# Altium schematic symbol library Project.SchLib: 38 symbols
Pins are listed as number, name and electrical type; pins without a type are passive.

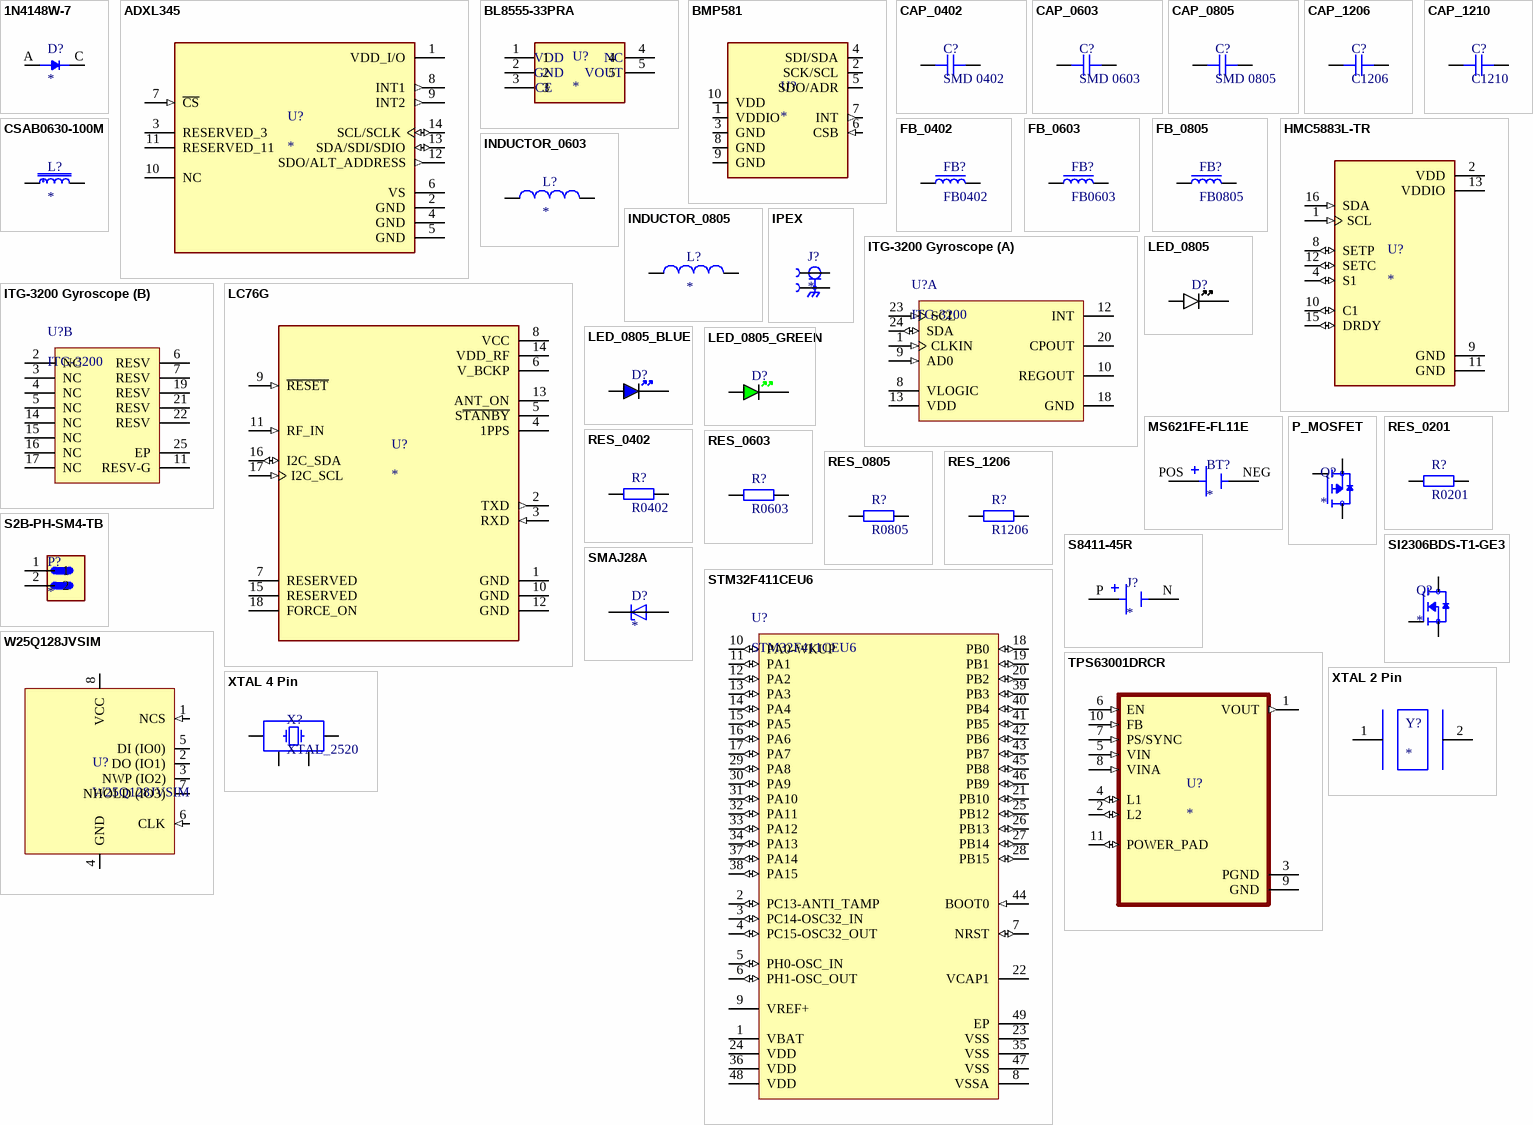
[diagram p0: symbols 1N4148W-7 to XTAL 4 Pin]

## 1N4148W-7
designator D?
Diode Standard 100 V 300mA (DC) Surface Mount SOD-123; MP: 1N4148W-7; MF: Diodes Inc.; SnapEDA_Link: https://www.snapeda.com/parts/1N4148W-7/Diodes+Inc./view-part/?ref=snap; Package: SOD-123 Fairchild Semiconductor; Check_prices: https://www.snapeda.com/parts/1N4148W-7/Diodes+Inc./view-part/?ref=eda; Purchase-URL: https://pricing.snapeda.com/search/part/1N4148W-7/?ref=eda; Price: None; Value: *; Availability: In Stock
footprint SOD3715X135N
pins: A, C K

## ADXL345
designator U?
Accelerometer X, Y, Z Axis ±2g, 4g, 8g, 16g 0.05Hz ~ 1.6kHz 14-LGA (3x5); MF: Analog Devices, Inc.; MP: ADXL345; SnapEDA_Link: https://www.snapeda.com/parts/ADXL345/Analog+Devices/view-part/?ref=snap; Package: LGA -14 Analog Devices; Value: *; Check_prices: https://www.snapeda.com/parts/ADXL345/Analog+Devices/view-part/?ref=eda
footprint PQFN80P500X300X100-14N
pins: 1 VDD_I/O (power), 2 GND (power), 3 RESERVED_3, 4 GND (power), 5 GND (power), 6 VS (power), 7 ~{CS} (in), 8 INT1 (out), 9 INT2 (out), 10 NC, 11 RESERVED_11, 12 SDO/ALT_ADDRESS (out), 13 SDA/SDI/SDIO (io), 14 SCL/SCLK (io)

## BL8555-33PRA
designator U?
footprint SOT-23-5 (SOT23, 5-Leads, Body 2,90x2,80mm, Pitch 0,95mm, IPC Medium Density)
pins: 1, 2, 3, 4, 5
text: VDD; NC; GND; VOUT; CE

## BMP581
designator U?
Very small, low-power and low noise 24-bit absolute barometric pressure sensor. This digital, high-performance sensor is ideally suited for a wide range of altitude tracking applications and offers outstanding design flexibility; MF: Bosch; MP: BMP581; Package: None; Price: None; Value: *; SnapEDA_Link: https://www.snapeda.com/parts/BMP581/Bosch/view-part/?ref=snap; Availability: Unavailable; Check_prices: https://www.snapeda.com/parts/BMP581/Bosch/view-part/?ref=eda
footprint BMP581
pins: 1 VDDIO (power), 2 SCK/SCL (io), 3 GND (power), 4 SDI/SDA (io), 5 SDO/ADR (io), 6 CSB (in), 7 INT (out), 8 GND (power), 9 GND (power), 10 VDD (power)

## CAP_0402
designator C?, comment SMD 0402
Capacitor SMD 0402; Manufacturer: *; Manufacturer Part Number: *; Distributor Link: *; Rating: *; Dielectric: *; LCSC: *
footprint CAP_0402
pins: 1, 2

## CAP_0603
designator C?, comment SMD 0603
Capacitor SMD 0603; Manufacturer: *; Manufacturer Part Number: *; Distributor Link: *; LCSC: *; Rating: *; Dielectric: *
footprint CAP_0603
pins: 1, 2

## CAP_0805
designator C?, comment SMD 0805
Capacitor SMD 0805; Manufacturer: *; Manufacturer Part Number: *; Distributor Link: *; LCSC: *; Rating: *; Dielectric: *
footprint CAP_0805
footprint 0805 NC (Footprint not found)
pins: 1, 2

## CAP_1206
designator C?, comment C1206
Capacitor SMD 1206; Manufacturer: *; Manufacturer Part Number: *; Distributor Link: *; LCSC: *; Rating: *; Dielectric: *
footprint CAP_1206
pins: 1, 2

## CAP_1210
designator C?, comment C1210
Capacitor SMD 1210; Manufacturer: *; Manufacturer Part Number: *; Distributor Link: *; LCSC: *; Rating: *; Dielectric: *
footprint CAP_1210
pins: 1, 2

## CSAB0630-100M
designator L?
SMD Inductor 10uH-20%-5A; MF: Codaca; MP: CSAB0630-100M; SnapEDA_Link: https://www.snapeda.com/parts/CSAB0630-100M/Codaca/view-part/?ref=snap; Package: None; Value: *; Check_prices: https://www.snapeda.com/parts/CSAB0630-100M/Codaca/view-part/?ref=eda
footprint INDC6060X300
pins: 1, 2

## FB_0402
designator FB?, comment FB0402
Ferrite Bead SMD 0402; Manufacturer: *; Manufacturer Part Number: *; Distributor Link: *; LCSC: *
footprint FB_0402
pins: 1, 2

## FB_0603
designator FB?, comment FB0603
Ferrite Bead SMD 0603; Manufacturer: *; Manufacturer Part Number: *; Distributor Link: *; LCSC: *
footprint FB_0603 (Ferrite Bead 0603)
pins: 1, 2

## FB_0805
designator FB?, comment FB0805
Ferrite Bead SMD 0805; Manufacturer: *; Manufacturer Part Number: *; Distributor Link: *; LCSC: *
footprint FB_0805
pins: 1, 2

## HMC5883L-TR
designator U?
Board Mount Hall Effect / Magnetic Sensors Sensors, Transducers Magnetic - Hall Effect, Digital Switch, Linear, Compass (ICs) - IC COMPASS 3 AXIS I2C 16LCC SMD; MF: STMicroelectronics; MP: HMC5883LTR; SnapEDA_Link: https://www.snapeda.com/parts/HMC5883LTR/STMicroelectronics/view-part/?ref=snap; Package: LCC-16 STMicroelectronics; Value: *; Check_prices: https://www.snapeda.com/parts/HMC5883LTR/STMicroelectronics/view-part/?ref=eda
footprint XDCR_HMC5883L-TR
footprint FP-HMC5883L-TR-MFG
pins: 1 SCL (in), 2 VDD (power), 4 S1 (io), 8 SETP (io), 9 GND (power), 10 C1 (io), 11 GND (power), 12 SETC (io), 13 VDDIO (power), 15 DRDY (io), 16 SDA (in)

## INDUCTOR_0603
designator L?
Inductor with 0603 (1608); MP: LQW18AS22NG0CD; MF: Murata; Purchase-URL: https://pricing.snapeda.com/search/part/LQW18AS22NG0CD/?ref=eda; Value: *; Availability: Warning; Package: 1608 Murata; SnapEDA_Link: https://www.snapeda.com/parts/LQW18AS22NG0CD/Murata/view-part/4476690/?ref=snap; Price: None; Check_prices: https://www.snapeda.com/parts/LQW18AS22NG0CD/Murata/view-part/4476690/?ref=eda
footprint INDC1608X100N
pins: 1, 2

## INDUCTOR_0805
designator L?
INDUCTOR 0805 wire-wound; MP: LQW2BAN68NG00L; Package: None; Price: None; Value: *; Availability: Unavailable
footprint INDC2015X152N
footprint INDC2015X152N
footprint 0805 INDUCTOR
pins: 1, 2

## IPEX
designator J?
1 POS Vertical SMD Small form factor with big performance through 6 GHz connector,MHF, RF, micro-coaxial MHF I Receptacle; MF: I-PEX; MP: 20279-001E-03; SnapEDA_Link: https://www.snapeda.com/parts/20279-001E-03/I-PEX/view-part/?ref=snap; Package: None; Value: *; Check_prices: https://www.snapeda.com/parts/20279-001E-03/I-PEX/view-part/?ref=eda
footprint IPEX_20279-001E-03
pins: 1 SIGNAL, 2 GROUND, 3 GROUND

## ITG-3200 Gyroscope
designator U?, comment ITG-3200
Single-Chip, Digital-Output, MEMS Gyroscope, 2.1 to 3.6 V, -40 to 105 degC, 24 -Pin QFN, RoHS, Tape and Reel; ComponentLink2URL: http://www.farnell.com/datasheets/887152.pdf; Lead Pitch: 0.1 inch; ComponentLink1Description: Manufacturer URL; Package Quantity: 1; PackageReference: QFN-24_A; ComponentLink1URL: http://www.invensense.com/; Contact Finish: Tin; Packaging: Bulk; RoHSCompliant: True; Mount: Through Hole; ComponentLink2Description: Datasheet; PackageDescription: 24-Pin Quad Flat No-lead Package, Body 4.00 x 4.00 mm, Pitch 0.50 mm, Thermal Pad 3.00 x 2.80 mm; DatasheetVersion: Rev. 1.4, 03/2010; Pins: 36; Colour: Black
footprint INSE-QFN-24_A_N (QFN, 24-Leads, Body 4.1x4.1mm, Pitch 0.50mm, Thermal Pad 3.00x2.80mm, IPC Medium Density)
footprint INSE-QFN-24_A_L (QFN, 24-Leads, Body 4.1x4.1mm, Pitch 0.50mm, Thermal Pad 3.00x2.80mm, IPC High Density)
footprint INSE-QFN-24_A_M (QFN, 24-Leads, Body 4.1x4.1mm, Pitch 0.50mm, Thermal Pad 3.00x2.80mm, IPC Low Density)
footprint QFN-24
part A pins: 1 CLKIN (in) "Optional external reference clock input. Connect to GND if unused.", 8 VLOGIC (power) "Digital IO supply voltage. VLOGIC must be =< VDD at all times.", 9 AD0 (in) "I2C Slave Address LSB", 10 REGOUT "Regulator filter capacitor connection", 12 INT (oc) "Interrupt digital output (totem pole or open-drain)", 13 VDD (power) "Power supply voltage", 18 GND (power) "Power supply ground", 20 CPOUT "Charge pump capacitor connection", 23 SCL (in) "I2C serial clock", 24 SDA (io) "I2C serial data"
part B pins: 2 NC "Not internally connected. May be used for PCB trace routing.", 3 NC "Not internally connected. May be used for PCB trace routing.", 4 NC "Not internally connected. May be used for PCB trace routing.", 5 NC "Not internally connected. May be used for PCB trace routing.", 6 RESV "Reserved. Do not connect.", 7 RESV "Reserved. Do not connect.", 11 RESV-G "Reserved - Connect to ground", 14 NC "Not internally connected. May be used for PCB trace routing.", 15 NC "Not internally connected. May be used for PCB trace routing.", 16 NC "Not internally connected. May be used for PCB trace routing.", 17 NC "Not internally connected. May be used for PCB trace routing.", 19 RESV "Reserved. Do not connect.", 21 RESV "Reserved. Do not connect.", 22 RESV "Reserved. Do not connect.", 25 EP

## LC76G
designator U?
MF: Quectel; MP: LC76G; Package: None; Price: None; Value: *; Availability: Unavailable
footprint XCVR_LC76G
pins: 1 GND (power), 2 TXD (out), 3 RXD (in), 4 1PPS, 5 S~{TANBY}, 6 V_BCKP (power), 7 RESERVED, 8 VCC (power), 9 ~{RESET} (in), 10 GND (power), 11 RF_IN (in), 12 GND (power), 13 ANT_ON, 14 VDD_RF (power), 15 RESERVED, 16 I2C_SDA (io), 17 I2C_SCL (in), 18 FORCE_ON

## LED_0805
designator D?, comment BLUE  (value not drawn)
LED 0805 BLUE SMD; Manufacturer: *; Manufacturer Part Number: *; Distributor Link: *; LCSC: *
footprint LED_0805
pins: A, K

## LED_0805_BLUE
designator D?, comment BLUE  (value not drawn)
LED 0805 BLUE SMD; Manufacturer: *; Manufacturer Part Number: *; Distributor Link: *; LCSC: *
footprint LED_0805_BLUE
pins: A, K

## LED_0805_GREEN
designator D?, comment GREEN  (value not drawn)
LED 0805 GREEN SMD; Manufacturer: *; Manufacturer Part Number: *; Distributor Link: *; LCSC: *
footprint LED_0805_GREEN
pins: A, K

## MS621FE-FL11E
designator BT?
Coin, 6.8mm 3 V Lithium Battery Rechargeable (Secondary) 5.5mAh; MF: Seiko Instruments; MP: MS621FE-FL11E; Value: *; Purchase-URL: https://pricing.snapeda.com/search/part/MS621FE-FL11E/?ref=eda; Package: QFP-128 Seiko; Availability: In Stock; Check_prices: https://www.snapeda.com/parts/MS621FE-FL11E/Seiko+Instruments/view-part/?ref=eda; Price: None; SnapEDA_Link: https://www.snapeda.com/parts/MS621FE-FL11E/Seiko+Instruments/view-part/?ref=snap
footprint BAT_MS621FE-FL11E
pins: NEG, POS

## P_MOSFET
designator Q?
MOSFET, SOT-23, P, -30V, -4A, 0.065â„¦, 150Â°C; MF: Diotec Semiconductor; MP: MMFTP3401; SnapEDA_Link: https://www.snapeda.com/parts/MMFTP3401/Diotec/view-part/?ref=snap; Package: SOT-23 Diotec; Value: *; Check_prices: https://www.snapeda.com/parts/MMFTP3401/Diotec/view-part/?ref=eda
footprint P_MOSFET_SOT23
pins: 1 G, 2 S, 3 D

## RES_0201
designator R?, comment R0201
Resistor SMD 0201; Manufacturer: *; Manufacturer Part Number: *; Distributor Link: *; LCSC: *
footprint RES_0201
pins: 1, 2

## RES_0402
designator R?, comment R0402
Resistor SMD 0402; Manufacturer: *; Manufacturer Part Number: *; Distributor Link: *; LCSC: *
footprint RES_0402
pins: 1, 2

## RES_0603
designator R?, comment R0603
Resistor SMD 0603; Manufacturer: *; Manufacturer Part Number: *; Distributor Link: *; LCSC: *
footprint RES_0603
pins: 1, 2

## RES_0805
designator R?, comment R0805
Resistor SMD 0805; Manufacturer: *; Manufacturer Part Number: *; Distributor Link: *; LCSC: *
footprint RES_0805
footprint 0805 NC
pins: 1, 2

## RES_1206
designator R?, comment R1206
Resistor SMD 1206; Manufacturer: *; Manufacturer Part Number: *; Distributor Link: *; LCSC: *
footprint RES_1206
pins: 1, 2

## S2B-PH-SM4-TB
designator P?
Connector Header Surface Mount, Right Angle 2 position 0.079 (2.00mm); MF: JST Sales; MP: S2B-PH-SM4-TB; SnapEDA_Link: https://www.snapeda.com/parts/S2B-PH-SM4-TB/JST/view-part/?ref=snap; Package: None; Value: *; Check_prices: https://www.snapeda.com/parts/S2B-PH-SM4-TB/JST/view-part/?ref=eda
footprint JST_S2B-PH-SM4-TB
pins: 1, 2

## S8411-45R
designator J?
Coin Cell Battery Retainer, Horizontal SMT, for CR1220 Coin Cell Batteries, Tape & Reeled; MF: Harwin; MP: S8411-45R; SnapEDA_Link: https://www.snapeda.com/parts/S8411-45R/Harwin+Inc./view-part/?ref=snap; Package: None; Value: *; Check_prices: https://www.snapeda.com/parts/S8411-45R/Harwin+Inc./view-part/?ref=eda
footprint HARWIN_S8411-45R
pins: N NEG, P POS

## SI2306BDS-T1-GE3
designator Q?
N-Channel 30 V 3.16A (Ta) 750mW (Ta) Surface Mount SOT-23-3 (TO-236); MF: Vishay Siliconix; MP: SI2306BDS-T1-GE3; SnapEDA_Link: https://www.snapeda.com/parts/SI2306BDS-T1-GE3/Vishay/view-part/?ref=snap; Package: SOT-23-3 Vishay Siliconix; Value: *; Check_prices: https://www.snapeda.com/parts/SI2306BDS-T1-GE3/Vishay/view-part/?ref=eda
footprint SOT95P237X112-3N
pins: 1 G, 2 S, 3 D

## SMAJ28A
designator D?
400W, 32.8V, 5%, Unidirectional, TVS; MF: Taiwan Semiconductor; MP: SMAJ28A; SnapEDA_Link: https://www.snapeda.com/parts/SMAJ28A/taiwan/view-part/?ref=snap; Package: SMA-2 Taiwan Semiconductor; Value: *; Check_prices: https://www.snapeda.com/parts/SMAJ28A/taiwan/view-part/?ref=eda
footprint DIOM4325X250N
pins: A, C

## STM32F411CEU6
designator U?
ARM Cortex-M4 32-bit MCU+FPU, 512 KB Flash, 128 KB RAM, 36 I/Os, 48-Pin UFQFPN, -40 to 85 degC, Tray; Operating Frequency(F) (Processor speed) (MHz): 100; FLASH Size (Prog) (kB): 512; Internal RAM Size (kB): 128; I/Os (High Current): 36; Supply Voltage(Vcc) min (V): 1.7; Package Reference: 48-Pin Ultra Thin Fine Pitch Quad Flat No-Lead, 7 x 7 x 0.6 mm Body, 0.5 mm Pitch, Exposed Pad; ComponentLink1Description: Manufacturer URL; ComponentLink1URL: http://www.st.com/; Packing: Tray; Package Description: UFQFPN48; Core: ARM Cortex-M4; ComponentLink2Description: Datasheet; ComponentLink2URL: http://www.st.com/st-web-ui/static/active/en/resource/technical/document/datasheet/DM00115249.pdf; DatasheetVersion: Rev. 6; Mounting Technology: Surface Mount
footprint STM-UFQFPN48_L (QFN, 48-Leads, Body 7.1x7.1mm, Pitch 0.5mm, Thermal Pad 5.6x5.6mm, IPC High Density)
footprint STM-UFQFPN48_N (QFN, 48-Leads, Body 7.1x7.1mm, Pitch 0.5mm, Thermal Pad 5.6x5.6mm, IPC Medium Density)
footprint STM-UFQFPN48_M (QFN, 48-Leads, Body 7.1x7.1mm, Pitch 0.5mm, Thermal Pad 5.6x5.6mm, IPC Low Density)
pins: 1 VBAT (power), 2 PC13-ANTI_TAMP (io) "PC13-ANTI_TAMP/RTC_AMP1,RTC_OUT,RTC_TS", 3 PC14-OSC32_IN (io) "PC14-OSC32_IN/OSC32_IN", 4 PC15-OSC32_OUT (io) "PC15-OSC32_OUT/OSC32_OUT", 5 PH0-OSC_IN (io) "PH0-OSC_IN/OSC_IN", 6 PH1-OSC_OUT (io) "PH1-OSC_OUT/OSC_OUT", 7 NRST (io) "NRST/EVENTOUT", 8 VSSA (power), 9 VREF+ (power), 10 PA0-WKUP (io) "PA0-WKUP/TIM2_CH1/TIM2_ET,TIM5_CH1,USART2_CTS,EVENTOUT/ADC1_0,WKUP1", 11 PA1 (io) "PA1/TIM2_CH2,TIM5_CH2,SPI4_MOSI/I2S4_SD,USART2_RTS,EVENTOUT/ADC1_1", 12 PA2 (io) "PA2/TIM2_CH3,TIM5_CH3,TIM9_CH1,I2S2_CKIN,USART2_TX,EVENTOUT/ADC1_2", 13 PA3 (io) "PA3/TIM2_CH4,TIM5_CH4,TIM9_CH2,I2S2_MCK,USART2_RX,EVENTOUT/ADC1_3", 14 PA4 (io) "PA4/SPI1_NSS/I2S1_WS,SPI3_NSS/I2S3_WS,USART2_CK,EVENTOUT/ADC1_4", 15 PA5 (io) "PA5/TIM2_CH1/TIM2_ET,SPI1_SCK/I2S1_CK,EVENTOUT/ADC1_5", 16 PA6 (io) "PA6/TIM1_BKIN,TIM3_CH1,SPI1_MISO,I2S2_MCK,SDIO_CMD,EVENTOUT/ADC1_6", 17 PA7 (io) "PA7/TIM1_CH1N,TIM3_CH2,SPI1_MOSI/I2S1_SD,EVENTOUT/ADC1_7", 18 PB0 (io) "PB0/TIM1_CH2N,TIM3_CH3,SPI5_SCK/I2S5_CK,EVENTOUT/ADC1_8", 19 PB1 (io) "PB1/TIM1_CH3N,TIM3_CH4,SPI5_NSS/I2S5_WS,EVENTOUT/ADC1_9", 20 PB2 (io) "PB2/EVENTOUT/BOOT1", 21 PB10 (io) "PB10/TIM2_CH3,I2C2_SCL,SPI2_SCK/I2S2_CK,I2S3_MCK,SDIO_D7,EVENTOUT", 22 VCAP1, 23 VSS (power), 24 VDD (power), 25 PB12 (io) "PB12/TIM1_BKIN,I2C2_SMBA,SPI2_NSS/I2S2_WS,SPI4_NSS/I2S4_WS,SPI3_SCK/I2S3_CK,EVENTOUT", 26 PB13 (io) "PB13/TIM1_CH1N,SPI2_SCK/I2S2_CK,SPI4_SCK/I2S4_CK,EVENTOUT", 27 PB14 (io) "PB14/TIM1_CH2N,SPI2_MISO,I2S2EXT_SD,SDIO_D6,EVENTOUT", 28 PB15 (io) "PB15/RTC_50HZ,TIM1_CH3N,SPI2_MOSI/I2S2_SD,SDIO_CK,EVENTOUT/RTC_REFIN", 29 PA8 (io) "PA8/MCO_1,TIM1_CH1,I2C3_SCL,USART1_CK,USB_FS_SOF,SDIO_D1,EVENTOUT", 30 PA9 (io) "PA9/TIM1_CH2,I2C3_SMBA,USART1_TX,USB_FS_VBUS,SDIO_D2,EVENTOUT/OTG_FS_VBUS", 31 PA10 (io) "PA10/TIM1_CH3,SPI5_MOSI/I2S5_SD,USART1_RX,USB_FS_ID,EVENTOUT", 32 PA11 (io) "PA11/TIM1_CH4,SPI4_MISO,USART1_CTS,USART6_TX,USB_FS_DM,EVENTOUT", 33 PA12 (io) "PA12/TIM1_ETR,SPI5_MISO,USART1_RTS,USART6_RX,USB_FS_DP,EVENTOUT", 34 PA13 (io) "PA13/JTMS-SWDIO,EVENTOUT", 35 VSS (power), 36 VDD (power), 37 PA14 (io) "PA14/JTCK-SWCLK,EVENTOUT", 38 PA15 (io) "PA15/JTDI,TIM2_CH1/TIM2_ETR,SPI1_NSS/I2S1_WS,SPI3_NSS/I2S3_WS,USART1_TX,EVENTOUT", 39 PB3 (io) "PB3/JTDO-SWO,TIM2_CH2,SPI1_SCK/I2S1_CK,SPI3_SCK/I2S3_CK,USART1_RX,I2C2_SDA,EVENTOUT", 40 PB4 (io) "PB4/JTRST,TIM3_CH1,SPI1_MISO,SPI3_MISO,I2S3EXT_SD,I2C3_SDA,SDIO_D0,EVENTOUT", 41 PB5 (io) "PB5/TIM3_CH2,I2C1_SMBA,SPI1_MOSI/I2S1_SD,SPI3_MOSI/I2S3_SD,SDIO_D3,EVENTOUT", 42 PB6 (io) "PB6/TIM4_CH1,I2C1_SCL,USART1_TX,EVENTOUT", 43 PB7 (io) "PB7/TIM4_CH2,I2C1_SDA,USART1_RX,SDIO_D0,EVENTOUT", 44 BOOT0 (in) "BOOT0/VPP", 45 PB8 (io) "PB8/TIM4_CH3,TIM10_CH1,I2C1_SCL,SPI5_MOSI/I2S5_SD,I2C3_SDA,SDIO_D4,EVENTOUT", 46 PB9 (io) "PB9/TIM4_CH4,TIM11_CH1,I2C1_SDA,SPI2_NSS/I2S2_WS,I2C2_SDA,SDIO_D5,EVENTOUT", 47 VSS (power), 48 VDD (power), 49 EP (power)

## TPS63001DRCR
designator U?
96% Buck-Boost Converter with 1.7A Current Switches, 3.3V fixed Output voltage in 3x3 QFN; MF: Texas Instruments; MP: TPS63001DRCR; SnapEDA_Link: https://www.snapeda.com/parts/TPS63001DRCR/Texas+Instruments/view-part/?ref=snap; Package: VSON-10 Texas Instruments; Value: *; Check_prices: https://www.snapeda.com/parts/TPS63001DRCR/Texas+Instruments/view-part/?ref=eda
footprint VREG_V62/16624-01YE
pins: 1 VOUT (out), 2 L2 (io), 3 PGND (power), 4 L1 (io), 5 VIN (in), 6 EN (in), 7 PS/SYNC (in), 8 VINA (in), 9 GND (power), 10 FB (in), 11 POWER_PAD (io)

## W25Q128JVSIM
designator U?
128M-BIT / SERIAL FLASH MEMORY WITH / DUAL/QUAD SPI & QPI & DTR SOIC-8; Manufacturer: Winbond; Manufacturer Part Number: W25Q128JVSIM
footprint SOIC-8 (SOIC, 8-Leads, Body 4.91x3.90mm, Pitch 1.27mm, IPC Medium Density)
pins: 1 NCS (in), 2 DO (IO1) (io), 3 NWP (IO2) (io), 4 GND (power), 5 DI (IO0) (io), 6 CLK (in), 7 NHOLD (IO3) (io), 8 VCC (power)

## XTAL 2 Pin
designator Y?
32.768 kHz Â±20ppm Crystal 12.5pF 70 kOhms 2-SMD, No Lead; MF: EPSON; MP: FC-135 32.7680KA-A0; SnapEDA_Link: https://www.snapeda.com/parts/FC-135%2032.7680KA-A0/EPSON/view-part/?ref=snap; Package: SMD-2 Epson; Value: *; Check_prices: https://www.snapeda.com/parts/FC-135%2032.7680KA-A0/EPSON/view-part/?ref=eda
footprint XTAL_FC-135_32.7680KA-A0
pins: 1, 2

## XTAL 4 Pin
designator X?, comment XTAL_2520
Crystal Oscillator; Distributor Link: *
footprint XTAL_2520
footprint XTAL_3225
pins: 1, 2, 3, 4